# Altium schematic symbol library SW_SMD_6x6.SchLib: 1 symbol
Pins are listed as number, name and electrical type; pins without a type are passive.

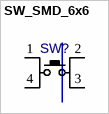
[diagram p0: symbol SW_SMD_6x6]

## SW_SMD_6x6
designator SW?, comment PUSHBUTTON  (value not drawn)
SWITCH, PUSH BUTTON, TACTILE, SMD, SPDT, 6X6X7mm; MANF: Bond-Tact; DESC: DESCRIPTION; MANF_P#: TS-1170S; VALUE: PUSHBUTTON; ASSEMBLY: ASSEMBLY; PARAM: PARAM; PRICE: PRICE
footprint SWPBS_SPDT_6X6X7TS (SWITCH, PUSHBUTTON, SMD, SPDT, 7.0mm, TS-1170S)
pins: 1 P1, 2 P3, 3 P4, 4 P2